# EAGLE library part FDG6303N (library Fairchild-AON)
Dual N-channel digital FET 25V/0.5A 0.45Ohm
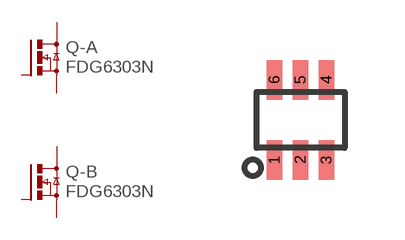
[diagram p1: symbol with the pads of SC70-6; footprint SC70-6]

Designator prefix Q; gates -A=MOSFET-N -B=MOSFET-N

## FDG6303N  [SC70-6]
1  -A:S  pas
2  -A:G  pas
3  -B:D  pas
4  -B:S  pas
5  -B:G  pas
6  -A:D  pas

## Footprint SC70-6 (pad centres in mm)
SC70, 0.65mm pitch
smd 0.39 x 0.99: 1 -0.65,-1; 2 0,-1; 3 0.65,-1; 4 0.65,1; 5 0,1; 6 -0.65,1